# Altium schematic symbol library BQ2980xy.SchLib: 1 symbol
Pins are listed as number, name and electrical type; pins without a type are passive.

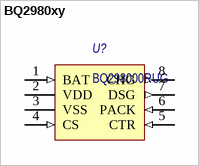
[diagram p0: symbol BQ2980xy]

## BQ2980xy
designator U?, comment BQ298000RUG
Voltage, Current, Temperature Protectors with an Integrated High-Side / NFET Driver for Fast/Flash Charging Single-Cell Li-Ion and Li-Polymer Batteries; Потребление, Вт: 0.001; Наименование: BQ298000RUG; Назначение: Voltage, Current, Temperature Protectors with an Integrated High-Side; ComponentLink1Description: DataSheet; ComponentLink1URL: https://www.ti.com/lit/ds/symlink/bq2980.pdf?ts=1635593723857&ref_url=https%253A%252F%252Fwww.ti.com%252Fproduct%252FBQ2980
footprint X2QFN-8
pins: 1 BAT (in) "BAT voltage sensing input (connected to the battery side)", 2 VDD (power) "Supply voltage", 3 VSS (power) "Device ground", 4 CS (in) "Current sensing input (connect to PACK– side of the sense resistor)", 5 CTR (in) "Active high control pin to open FET drivers and shut down the device", 6 PACK (in) "Pack voltage sensing pin (connected to the charger side, typically referred to as PACK+ and PACK-)", 7 DSG (out) "DSG FET driver", 8 CHG (out) "CHG FET driver"